# EAGLE library part INTERFACE-TXS0104E (library Pygmy)
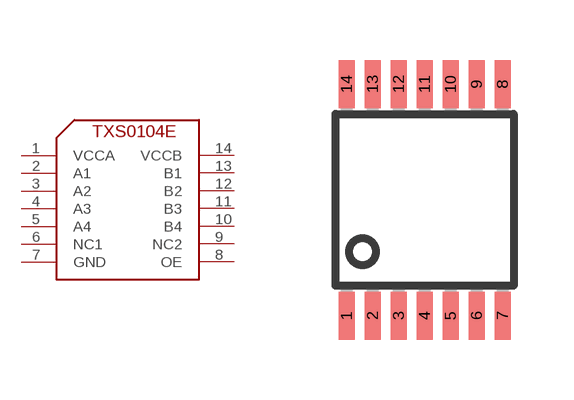
[diagram p43: symbol with the pads of PW_R-PDSO-G14; footprint PW_R-PDSO-G14]

Designator prefix -

## INTERFACE-TXS0104E  [PW_R-PDSO-G14]
1  VCCA
2  A1
3  A2
4  A3
5  A4
6  NC1
7  GND
8  OE
9  NC2
10  B4
11  B3
12  B2
13  B1
14  VCCB

## Footprint PW_R-PDSO-G14 (pad centres in mm)
PLASTIC SMALL-OUTLINE PACKAGE SO 14 JEDEC MO-153, PW Type Source: www.ti.com/.. slvs087l.pdf
smd 0.4 x 1.2: 1 -1.95,-2.9; 2 -1.3,-2.9; 3 -0.65,-2.9; 4 0,-2.9; 5 0.65,-2.9; 6 1.3,-2.9; 7 1.95,-2.9; 8 1.95,2.9; 9 1.3,2.9; 10 0.65,2.9; 11 0,2.9; 12 -0.65,2.9; 13 -1.3,2.9; 14 -1.95,2.9